# EAGLE library part LTC2635HMSE-HMI12PBF (library strasys_standard)
I2C VOUT DAC
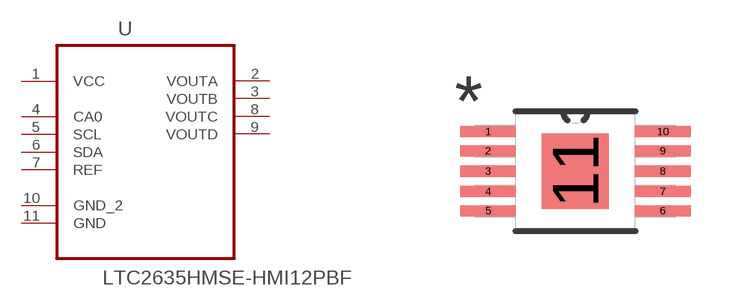
[diagram p17: symbol with the pads of SOP50P490X110-11N; footprint SOP50P490X110-11N]

Designator prefix U

## LTC2635HMSE-HMI12PBF (MPN: LTC2635HMSE-HMI12#PBF; OC_FARNELL: 1839178; OC_NEWARK: 52R9833; PACKAGE: MSOP-10; SUPPLIER: Linear Technology)  [SOP50P490X110-11N]
1  VCC  pwr
2  VOUTA  out
3  VOUTB  out
4  CA0  in
5  SCL  in
6  SDA
7  REF
8  VOUTC  out
9  VOUTD  out
10  GND_2  pas
11  GND  pas

## Footprint SOP50P490X110-11N (pad centres in mm)
smd 1.397 x 0.279: 1 -2.184,0.991; 2 -2.184,0.508; 3 -2.184,0; 4 -2.184,-0.508; 5 -2.184,-0.991; 6 2.184,-0.991; 7 2.184,-0.508; 8 2.184,0; 9 2.184,0.508; 10 2.184,0.991
smd 1.676 x 1.88: 11 0,0